# Altium integrated library AVE107M16E16T-F.IntLib: 2 symbols
Pins are listed as number, name and electrical type; pins without a type are passive.

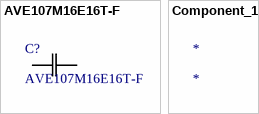
[diagram p0: symbols AVE107M16E16T-F to Component_1]

## AVE107M16E16T-F
designator C?
No Description Available; Mfr_Name: Cornell Dubilier; Type: DEV; Copyright: Copyright (C) 2021 Ultra Librarian. All rights reserved.; Manufacturer_Part_Number: AVE107M16E16T-F; RefDes: RefDes
footprint CAP_16E16T-F
pins: 1, 2

## Component_1
designator *